# Altium integrated library NXP Semiconductors Standard MOSFETs.IntLib: 477 symbols (part 13 of 14)
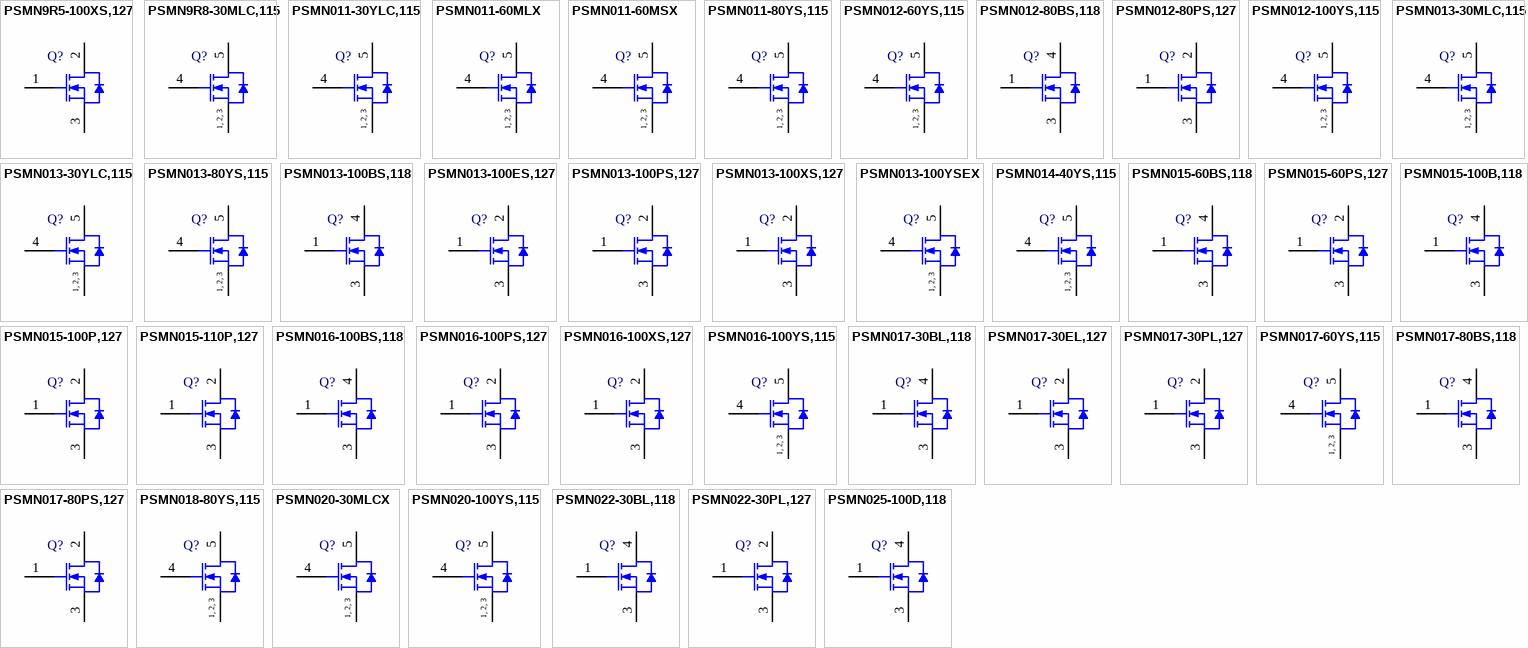
[diagram p24: symbols PSMN9R5-100XS,127 to PSMN025-100D,118]

## PSMN012-60YS,115
designator Q?
N-Channel Standard Level MOSFET, 60 V, 59 A, 5-Pin SOT669, Tape and Reel; Manufacturer: NXP Semiconductors; PartNumber: PSMN012-60YS,115; Channel Type: N; Ciss [typ] (pF): 1685; Coss [typ] (pF): 245; ID [max] (A): 59; Packing: Tape & Reel; Qr [typ] (nC): 41; VDS [max] (V): 60; VGSth [typ] (V): 3; DatasheetVersion: Rev. 01; PackageVersion: 13-02-27, 02/2013; PackageReference: SOT669; PackageDescription: 4-Pin Plastic Single-ended Surface Mounted Package, Body 4.9 x 3.95 mm, Pitch 1.27 mm; Supplier 1: Digi-Key; Supplier Part Number 1: 568-4977-2-ND; Supplier 2: Digi-Key; Supplier Part Number 2: 568-4977-1-ND; Supplier 3: Digi-Key; Supplier Part Number 3: 568-4977-6-ND; Supplier 4: Newark; Supplier Part Number 4: 79R2055; Supplier 5: Mouser; Supplier Part Number 5: 771-PSMN012-60YS-115; Mounting Technology: Surface Mount; Code_JEDEC: MO-235; ComponentLink1Description: Manufacturer URL; ComponentLink1URL: http://www.nxp.com/; ComponentLink2Description: Datasheet; ComponentLink2URL: http://www.nxp.com/documents/data_sheet/PSMN012-60YS.pdf; ComponentLink3Description: Package Specification; ComponentLink3URL: http://www.nxp.com/documents/outline_drawing/sot669_po.pdf
footprint NXP-SOT669_N (DPAK, 4-Leads, Body 5x4.1mm, Pitch 1.27mm, IPC Medium Density)
footprint NXP-SOT669_L (DPAK, 4-Leads, Body 5x4.1mm, Pitch 1.27mm, IPC High Density)
footprint NXP-SOT669_M (DPAK, 4-Leads, Body 5x4.1mm, Pitch 1.27mm, IPC Low Density)
pins: 1 S "source", 2 S "source", 3 S "source", 4 G "gate", 5 D "mounting base; connected to drain"
text: 1, 2, 3

## PSMN012-80BS,118
designator Q?
N-Channel Standard Level MOSFET, 80 V, 74 A, 3-Pin SOT404, Tape and Reel; Manufacturer: NXP Semiconductors; PartNumber: PSMN012-80BS,118; Channel Type: N; Ciss [typ] (pF): 2782; Coss [typ] (pF): 384; ID [max] (A): 74; Packing: Tape & Reel; Qr [typ] (nC): 64; VDS [max] (V): 80; VGSth [typ] (V): 3; DatasheetVersion: Rev. 2; PackageVersion: 13-02-25, 02/2013; PackageReference: SOT404; PackageDescription: 3-Pin Plastic Single-ended Surface Mounted Package, Body 10 x 9.6 mm, Pitch 2.54 mm; Supplier 1: Digi-Key; Supplier Part Number 1: 568-9697-2-ND; Supplier 2: Digi-Key; Supplier Part Number 2: 568-9697-1-ND; Supplier 3: Digi-Key; Supplier Part Number 3: 568-9697-6-ND; Supplier 4: Mouser; Supplier Part Number 4: 771-PSMN012-80BS,118; Mounting Technology: Surface Mount; ComponentLink1Description: Manufacturer URL; ComponentLink1URL: http://www.nxp.com/; ComponentLink2Description: Datasheet; ComponentLink2URL: http://www.nxp.com/documents/data_sheet/PSMN012-80BS.pdf; ComponentLink3Description: Package Specification; ComponentLink3URL: http://www.nxp.com/documents/outline_drawing/sot404_po.pdf
footprint NXP-SOT404_N (DPAK, 3-Leads, Body 10.3x9.8mm, Pitch 2.54mm, IPC Medium Density)
footprint NXP-SOT404_L (DPAK, 3-Leads, Body 10.3x9.8mm, Pitch 2.54mm, IPC High Density)
footprint NXP-SOT404_M (DPAK, 3-Leads, Body 10.3x9.8mm, Pitch 2.54mm, IPC Low Density)
pins: 1 G "gate", 3 S "source", 4 D "mounting base; connected to drain"

## PSMN012-80PS,127
designator Q?
N-Channel Standard Level MOSFET, 80 V, 74 A, 3-Pin SOT78, Tube; Manufacturer: NXP Semiconductors; PartNumber: PSMN012-80PS,127; Channel Type: N; Ciss [typ] (pF): 2782; Coss [typ] (pF): 384; ID [max] (A): 74; Qr [typ] (nC): 64; VDS [max] (V): 80; VGSth [typ] (V): 3; DatasheetVersion: Rev. 02; PackageVersion: 08-06-13, 06/2008; PackageReference: SOT78; PackageDescription: 3-Pin Flange Mount, Vertical Straight Lead, Body 10 x 4.4 mm, Pitch 2.54 mm; Supplier 1: Digi-Key; Supplier Part Number 1: 568-4902-5-ND; Supplier 2: Newark; Supplier Part Number 2: 70R7930; Supplier 3: Mouser; Supplier Part Number 3: 771-PSMN012-80PS,127; Packing: Tube; Mounting Technology: Through Hole; Code_JEITA: SC-46; Code_JEDEC: 3-lead TO-220AB; ComponentLink1Description: Manufacturer URL; ComponentLink1URL: http://www.nxp.com/; ComponentLink2Description: Datasheet; ComponentLink2URL: http://www.nxp.com/documents/data_sheet/PSMN012-80PS.pdf; ComponentLink3Description: Package Specification; ComponentLink3URL: http://www.nxp.com/documents/outline_drawing/sot078_po.pdf
footprint NXP-SOT78 (FM, 3-Leads, Body 10.3x4.7mm, Pitch 2.54mm)
pins: 1 G "gate", 2 D "drain", 3 S "source"

## PSMN012-100YS,115
designator Q?
N-Channel Standard Level MOSFET, 100 V, 60 A, 5-Pin SOT669, Tape and Reel; Manufacturer: NXP Semiconductors; PartNumber: PSMN012-100YS,115; Channel Type: N; Ciss [typ] (pF): 3500; Coss [typ] (pF): 246; ID [max] (A): 60; Packing: Tape & Reel; Qr [typ] (nC): 129; VDS [max] (V): 100; VGSth [typ] (V): 3; DatasheetVersion: Rev. 04; PackageVersion: 13-02-27, 02/2013; PackageReference: SOT669; PackageDescription: 4-Pin Plastic Single-ended Surface Mounted Package, Body 4.9 x 3.95 mm, Pitch 1.27 mm; Supplier 1: Digi-Key; Supplier Part Number 1: 568-4978-2-ND; Supplier 2: Digi-Key; Supplier Part Number 2: 568-4978-1-ND; Supplier 3: Digi-Key; Supplier Part Number 3: 568-4978-6-ND; Supplier 4: Farnell; Supplier Part Number 4: 2371251; Supplier 5: Newark; Supplier Part Number 5: 72R6286; Supplier 6: Newark; Supplier Part Number 6: 79R2054; Supplier 7: Mouser; Supplier Part Number 7: 771-PSMN012-100YS115; Mounting Technology: Surface Mount; Code_JEDEC: MO-235; ComponentLink1Description: Manufacturer URL; ComponentLink1URL: http://www.nxp.com/; ComponentLink2Description: Datasheet; ComponentLink2URL: http://www.nxp.com/documents/data_sheet/PSMN012-100YS.pdf; ComponentLink3Description: Package Specification; ComponentLink3URL: http://www.nxp.com/documents/outline_drawing/sot669_po.pdf
footprint NXP-SOT669_N (DPAK, 4-Leads, Body 5x4.1mm, Pitch 1.27mm, IPC Medium Density)
footprint NXP-SOT669_L (DPAK, 4-Leads, Body 5x4.1mm, Pitch 1.27mm, IPC High Density)
footprint NXP-SOT669_M (DPAK, 4-Leads, Body 5x4.1mm, Pitch 1.27mm, IPC Low Density)
pins: 1 S "source", 2 S "source", 3 S "source", 4 G "gate", 5 D "mounting base; connected to drain"
text: 1, 2, 3

## PSMN013-30MLC,115
designator Q?
N-Channel Logic Level MOSFET Using NextPower Technology, 30 V, 39 A, 5-Pin SOT1210, Reel; Manufacturer: NXP Semiconductors; PartNumber: PSMN013-30MLC,115; Channel Type: N; Ciss [typ] (pF): 519; Coss [typ] (pF): 131; ID [max] (A): 39; Qr [typ] (nC): 6.6; VDS [max] (V): 30; VGSth [typ] (V): 1.66; DatasheetVersion: Rev. 4; PackageVersion: 14-04-25, 04/2014; PackageReference: SOT1210; PackageDescription: 8-Pin Plastic Single-ended Surface Mounted Package, Body 3.3 x 2.6 mm, Pitch 0.65 mm; Supplier 1: Digi-Key; Supplier Part Number 1: 568-9571-2-ND; Supplier 2: Digi-Key; Supplier Part Number 2: 568-9571-1-ND; Supplier 3: Digi-Key; Supplier Part Number 3: 568-9571-6-ND; Supplier 4: Mouser; Supplier Part Number 4: 771-PSMN013-30MLC115; Packing: Reel; Mounting Technology: Surface Mount; ComponentLink1Description: Manufacturer URL; ComponentLink1URL: http://www.nxp.com/; ComponentLink2Description: Datasheet; ComponentLink2URL: http://www.nxp.com/documents/data_sheet/PSMN013-30MLC.pdf; ComponentLink3Description: Package Specification; ComponentLink3URL: http://www.nxp.com/documents/outline_drawing/sot1210_po.pdf
footprint NXP-SOT1210_N (DPAK, 5-Leads, Body 3.4x2.7mm, Pitch 0.65mm, IPC Medium Density)
footprint NXP-SOT1210_L (DPAK, 5-Leads, Body 3.4x2.7mm, Pitch 0.65mm, IPC High Density)
footprint NXP-SOT1210_M (DPAK, 5-Leads, Body 3.4x2.7mm, Pitch 0.65mm, IPC Low Density)
pins: 1 S "source", 2 S "source", 3 S "source", 4 G "gate", 5 D "mounting base; connected to drain"
text: 1, 2, 3

## PSMN013-30YLC,115
designator Q?
N-Channel Logic Level MOSFET Using NextPower Technology, 30 V, 32 A, 5-Pin SOT669, Tape and Reel; Manufacturer: NXP Semiconductors; PartNumber: PSMN013-30YLC,115; Channel Type: N; Ciss [typ] (pF): 521; Coss [typ] (pF): 128; ID [max] (A): 32; Packing: Tape & Reel; Qr [typ] (nC): 6; VDS [max] (V): 30; VGSth [typ] (V): 1.68; DatasheetVersion: Rev. 3; PackageVersion: 13-02-27, 02/2013; PackageReference: SOT669; PackageDescription: 4-Pin Plastic Single-ended Surface Mounted Package, Body 4.9 x 3.95 mm, Pitch 1.27 mm; Supplier 1: Digi-Key; Supplier Part Number 1: 568-8528-2-ND; Supplier 2: Digi-Key; Supplier Part Number 2: 568-8528-1-ND; Supplier 3: Digi-Key; Supplier Part Number 3: 568-8528-6-ND; Supplier 4: Mouser; Supplier Part Number 4: 771-PSMN013-30YLC115; Mounting Technology: Surface Mount; Code_JEDEC: MO-235; ComponentLink1Description: Manufacturer URL; ComponentLink1URL: http://www.nxp.com/; ComponentLink2Description: Datasheet; ComponentLink2URL: http://www.nxp.com/documents/data_sheet/PSMN013-30YLC.pdf; ComponentLink3Description: Package Specification; ComponentLink3URL: http://www.nxp.com/documents/outline_drawing/sot669_po.pdf
footprint NXP-SOT669_N (DPAK, 4-Leads, Body 5x4.1mm, Pitch 1.27mm, IPC Medium Density)
footprint NXP-SOT669_L (DPAK, 4-Leads, Body 5x4.1mm, Pitch 1.27mm, IPC High Density)
footprint NXP-SOT669_M (DPAK, 4-Leads, Body 5x4.1mm, Pitch 1.27mm, IPC Low Density)
pins: 1 S "source", 2 S "source", 3 S "source", 4 G "gate", 5 D "mounting base; connected to drain"
text: 1, 2, 3

## PSMN013-80YS,115
designator Q?
N-Channel Standard Level MOSFET, 80 V, 60 A, 5-Pin SOT669, Tape and Reel; Manufacturer: NXP Semiconductors; PartNumber: PSMN013-80YS,115; Channel Type: N; Ciss [typ] (pF): 2420; Coss [typ] (pF): 224; ID [max] (A): 60; Packing: Tape & Reel; Qr [typ] (nC): 91; VDS [max] (V): 80; VGSth [typ] (V): 3; DatasheetVersion: Rev. 01; PackageVersion: 13-02-27, 02/2013; PackageReference: SOT669; PackageDescription: 4-Pin Plastic Single-ended Surface Mounted Package, Body 4.9 x 3.95 mm, Pitch 1.27 mm; Supplier 1: Digi-Key; Supplier Part Number 1: 568-4911-2-ND; Supplier 2: Digi-Key; Supplier Part Number 2: 568-4911-1-ND; Supplier 3: Digi-Key; Supplier Part Number 3: 568-4911-6-ND; Supplier 4: Newark; Supplier Part Number 4: 79R2056; Supplier 5: Mouser; Supplier Part Number 5: 771-PSMN013-80YS,115; Mounting Technology: Surface Mount; Code_JEDEC: MO-235; ComponentLink1Description: Manufacturer URL; ComponentLink1URL: http://www.nxp.com/; ComponentLink2Description: Datasheet; ComponentLink2URL: http://www.nxp.com/documents/data_sheet/PSMN013-80YS.pdf; ComponentLink3Description: Package Specification; ComponentLink3URL: http://www.nxp.com/documents/outline_drawing/sot669_po.pdf
footprint NXP-SOT669_N (DPAK, 4-Leads, Body 5x4.1mm, Pitch 1.27mm, IPC Medium Density)
footprint NXP-SOT669_L (DPAK, 4-Leads, Body 5x4.1mm, Pitch 1.27mm, IPC High Density)
footprint NXP-SOT669_M (DPAK, 4-Leads, Body 5x4.1mm, Pitch 1.27mm, IPC Low Density)
pins: 1 S "source", 2 S "source", 3 S "source", 4 G "gate", 5 D "mounting base; connected to drain"
text: 1, 2, 3

## PSMN013-100BS,118
designator Q?
N-Channel Standard Level MOSFET, 100 V, 68 A, 3-Pin SOT404, Tape and Reel; Manufacturer: NXP Semiconductors; PartNumber: PSMN013-100BS,118; Channel Type: N; Ciss [typ] (pF): 3195; Coss [typ] (pF): 221; ID [max] (A): 68; Packing: Tape & Reel; Qr [typ] (nC): 109; VDS [max] (V): 100; VGSth [typ] (V): 3; PackageVersion: 13-02-25, 02/2013; PackageReference: SOT404; PackageDescription: 3-Pin Plastic Single-ended Surface Mounted Package, Body 10 x 9.6 mm, Pitch 2.54 mm; Supplier 1: Digi-Key; Supplier Part Number 1: 568-9474-2-ND; Supplier 2: Digi-Key; Supplier Part Number 2: 568-9474-1-ND; Supplier 3: Digi-Key; Supplier Part Number 3: 568-9474-6-ND; Supplier 4: Mouser; Supplier Part Number 4: 771-PSMN013-100BS118; Mounting Technology: Surface Mount; ComponentLink1Description: Manufacturer URL; ComponentLink1URL: http://www.nxp.com/; ComponentLink2Description: Datasheet; ComponentLink2URL: http://www.nxp.com/documents/data_sheet/PSMN013-100BS.pdf; ComponentLink3Description: Package Specification; ComponentLink3URL: http://www.nxp.com/documents/outline_drawing/sot404_po.pdf
footprint NXP-SOT404_N (DPAK, 3-Leads, Body 10.3x9.8mm, Pitch 2.54mm, IPC Medium Density)
footprint NXP-SOT404_L (DPAK, 3-Leads, Body 10.3x9.8mm, Pitch 2.54mm, IPC High Density)
footprint NXP-SOT404_M (DPAK, 3-Leads, Body 10.3x9.8mm, Pitch 2.54mm, IPC Low Density)
pins: 1 G "gate", 3 S "source", 4 D "mounting base; connected to drain"

## PSMN013-100ES,127
designator Q?
N-Channel Standard Level MOSFET, 100 V, 68 A, 3-Pin SOT226, Rail; Manufacturer: NXP Semiconductors; PartNumber: PSMN013-100ES,127; Channel Type: N; Ciss [typ] (pF): 3195; Coss [typ] (pF): 221; ID [max] (A): 68; Qr [typ] (nC): 109; VDS [max] (V): 100; VGSth [typ] (V): 3; DatasheetVersion: Rev. 3; PackageVersion: 09-08-25, 08/2009; PackageReference: SOT226; PackageDescription: 3-Pin Flange Mount, Vertical Straight Lead, Body 10 x 4.3 mm, Pitch 2.54 mm; Supplier 1: Digi-Key; Supplier Part Number 1: 568-7510-5-ND; Supplier 2: Mouser; Supplier Part Number 2: 771-PSMN013-100ES127; Packing: Rail; Mounting Technology: Through Hole; Code_JEDEC: TO-262; ComponentLink1Description: Manufacturer URL; ComponentLink1URL: http://www.nxp.com/; ComponentLink2Description: Datasheet; ComponentLink2URL: http://www.nxp.com/documents/data_sheet/PSMN013-100ES.pdf; ComponentLink3Description: Package Specification; ComponentLink3URL: http://www.nxp.com/documents/outline_drawing/sot226_po.pdf
footprint NXP-SOT226 (FM, 3-Leads, Body 10.3x4.5mm, Pitch 2.54mm)
pins: 1 G "gate", 2 D "drain", 3 S "source"

## PSMN013-100PS,127
designator Q?
N-Channel Standard Level MOSFET, 100 V, 68 A, 3-Pin SOT78, Tube; Manufacturer: NXP Semiconductors; PartNumber: PSMN013-100PS,127; Channel Type: N; Ciss [typ] (pF): 3195; Coss [typ] (pF): 221; ID [max] (A): 68; Qr [typ] (nC): 109; VDS [max] (V): 100; VGSth [typ] (V): 3; PackageVersion: 08-06-13, 06/2008; PackageReference: SOT78; PackageDescription: 3-Pin Flange Mount, Vertical Straight Lead, Body 10 x 4.4 mm, Pitch 2.54 mm; Supplier 1: Digi-Key; Supplier Part Number 1: 568-4976-5-ND; Supplier 2: Mouser; Supplier Part Number 2: 771-PSMN013-100PS127; Packing: Tube; Mounting Technology: Through Hole; Code_JEITA: SC-46; Code_JEDEC: 3-lead TO-220AB; ComponentLink1Description: Manufacturer URL; ComponentLink1URL: http://www.nxp.com/; ComponentLink2Description: Datasheet; ComponentLink2URL: http://www.nxp.com/documents/data_sheet/PSMN013-100PS.pdf; ComponentLink3Description: Package Specification; ComponentLink3URL: http://www.nxp.com/documents/outline_drawing/sot078_po.pdf
footprint NXP-SOT78 (FM, 3-Leads, Body 10.3x4.7mm, Pitch 2.54mm)
pins: 1 G "gate", 2 D "drain", 3 S "source"

## PSMN013-100XS,127
designator Q?
N-Channel Standard Level MOSFET, 100 V, 35.2 A, 3-Pin SOT186A, Rail; Manufacturer: NXP Semiconductors; PartNumber: PSMN013-100XS,127; Channel Type: N; Ciss [typ] (pF): 3195; Coss [typ] (pF): 221; ID [max] (A): 35.2; Qr [typ] (nC): 109; VDS [max] (V): 100; VGSth [typ] (V): 3; DatasheetVersion: Rev. 2; PackageVersion: 06-02-14, 02/2006; PackageReference: SOT186A; PackageDescription: 3-Pin Flange Mount, Vertical Straight Lead, Body 10 x 4.3 mm, Pitch 2.54 mm; Supplier 1: Digi-Key; Supplier Part Number 1: 568-9499-5-ND; Supplier 2: Mouser; Supplier Part Number 2: 771-PSMN013-100XS127; Packing: Rail; Mounting Technology: Through Hole; Code_JEDEC: 3-lead TO-220F; ComponentLink1Description: Manufacturer URL; ComponentLink1URL: http://www.nxp.com/; ComponentLink2Description: Datasheet; ComponentLink2URL: http://www.nxp.com/documents/data_sheet/PSMN013-100XS.pdf; ComponentLink3Description: Package Specification; ComponentLink3URL: http://www.nxp.com/documents/outline_drawing/sot186a_po.pdf
footprint NXP-SOT186A (FM, 3-Leads, Body 10.3x4.6mm, Pitch 2.54mm)
pins: 1 G "gate", 2 D "drain", 3 S "source"

## PSMN013-100YSEX
designator Q?
N-Channel Standard Level MOSFET, 100 V, 82 A, 5-Pin SOT669, Tape and Reel; Manufacturer: NXP Semiconductors; PartNumber: PSMN013-100YSEX; Channel Type: N; Ciss [typ] (pF): 3775; Coss [typ] (pF): 265; ID [max] (A): 82; Packing: Tape & Reel; Qr [typ] (nC): 146; VDS [max] (V): 100; VGSth [typ] (V): 3; PackageVersion: 13-02-27, 02/2013; PackageReference: SOT669; PackageDescription: 4-Pin Plastic Single-ended Surface Mounted Package, Body 4.9 x 3.95 mm, Pitch 1.27 mm; Supplier 1: Digi-Key; Supplier Part Number 1: 568-10284-2-ND; Supplier 2: Digi-Key; Supplier Part Number 2: 568-10284-1-ND; Supplier 3: Digi-Key; Supplier Part Number 3: 568-10284-6-ND; Supplier 4: Mouser; Supplier Part Number 4: 771-PSMN013-100YSEX; Mounting Technology: Surface Mount; Code_JEDEC: MO-235; ComponentLink1Description: Manufacturer URL; ComponentLink1URL: http://www.nxp.com/; ComponentLink2Description: Datasheet; ComponentLink2URL: http://www.nxp.com/documents/data_sheet/PSMN013-100YSE.pdf; ComponentLink3Description: Package Specification; ComponentLink3URL: http://www.nxp.com/documents/outline_drawing/sot669_po.pdf
footprint NXP-SOT669_N (DPAK, 4-Leads, Body 5x4.1mm, Pitch 1.27mm, IPC Medium Density)
footprint NXP-SOT669_L (DPAK, 4-Leads, Body 5x4.1mm, Pitch 1.27mm, IPC High Density)
footprint NXP-SOT669_M (DPAK, 4-Leads, Body 5x4.1mm, Pitch 1.27mm, IPC Low Density)
pins: 1 S "source", 2 S "source", 3 S "source", 4 G "gate", 5 D "mounting base; connected to drain"
text: 1, 2, 3

## PSMN014-40YS,115
designator Q?
N-Channel Standard Level MOSFET, 40 V, 46 A, 5-Pin SOT669, Tape and Reel; Manufacturer: NXP Semiconductors; PartNumber: PSMN014-40YS,115; Channel Type: N; Ciss [typ] (pF): 702; Coss [typ] (pF): 171; ID [max] (A): 46; Packing: Tape & Reel; Qr [typ] (nC): 17; VDS [max] (V): 40; VGSth [typ] (V): 3; DatasheetVersion: Rev. 03; PackageVersion: 13-02-27, 02/2013; PackageReference: SOT669; PackageDescription: 4-Pin Plastic Single-ended Surface Mounted Package, Body 4.9 x 3.95 mm, Pitch 1.27 mm; Supplier 1: Digi-Key; Supplier Part Number 1: 568-5578-2-ND; Supplier 2: Digi-Key; Supplier Part Number 2: 568-5578-1-ND; Supplier 3: Digi-Key; Supplier Part Number 3: 568-5578-6-ND; Supplier 4: Mouser; Supplier Part Number 4: 771-PSMN01440YS115; Mounting Technology: Surface Mount; Code_JEDEC: MO-235; ComponentLink1Description: Manufacturer URL; ComponentLink1URL: http://www.nxp.com/; ComponentLink2Description: Datasheet; ComponentLink2URL: http://www.nxp.com/documents/data_sheet/PSMN014-40YS.pdf; ComponentLink3Description: Package Specification; ComponentLink3URL: http://www.nxp.com/documents/outline_drawing/sot669_po.pdf
footprint NXP-SOT669_N (DPAK, 4-Leads, Body 5x4.1mm, Pitch 1.27mm, IPC Medium Density)
footprint NXP-SOT669_L (DPAK, 4-Leads, Body 5x4.1mm, Pitch 1.27mm, IPC High Density)
footprint NXP-SOT669_M (DPAK, 4-Leads, Body 5x4.1mm, Pitch 1.27mm, IPC Low Density)
pins: 1 S "source", 2 S "source", 3 S "source", 4 G "gate", 5 D "mounting base; connected to drain"
text: 1, 2, 3

## PSMN015-60BS,118
designator Q?
N-Channel Standard Level MOSFET, 60 V, 50 A, 3-Pin SOT404, Tape and Reel; Manufacturer: NXP Semiconductors; PartNumber: PSMN015-60BS,118; Channel Type: N; Ciss [typ] (pF): 1220; Coss [typ] (pF): 169; ID [max] (A): 50; Packing: Tape & Reel; Qr [typ] (nC): 28.5; VDS [max] (V): 60; VGSth [typ] (V): 3; DatasheetVersion: Rev. 2; PackageVersion: 13-02-25, 02/2013; PackageReference: SOT404; PackageDescription: 3-Pin Plastic Single-ended Surface Mounted Package, Body 10 x 9.6 mm, Pitch 2.54 mm; Supplier 1: Digi-Key; Supplier Part Number 1: 568-9698-2-ND; Supplier 2: Digi-Key; Supplier Part Number 2: 568-9698-1-ND; Supplier 3: Digi-Key; Supplier Part Number 3: 568-9698-6-ND; Supplier 4: Mouser; Supplier Part Number 4: 771-PSMN015-60BS,118; Mounting Technology: Surface Mount; ComponentLink1Description: Manufacturer URL; ComponentLink1URL: http://www.nxp.com/; ComponentLink2Description: Datasheet; ComponentLink2URL: http://www.nxp.com/documents/data_sheet/PSMN015-60BS.pdf; ComponentLink3Description: Package Specification; ComponentLink3URL: http://www.nxp.com/documents/outline_drawing/sot404_po.pdf
footprint NXP-SOT404_N (DPAK, 3-Leads, Body 10.3x9.8mm, Pitch 2.54mm, IPC Medium Density)
footprint NXP-SOT404_L (DPAK, 3-Leads, Body 10.3x9.8mm, Pitch 2.54mm, IPC High Density)
footprint NXP-SOT404_M (DPAK, 3-Leads, Body 10.3x9.8mm, Pitch 2.54mm, IPC Low Density)
pins: 1 G "gate", 3 S "source", 4 D "mounting base; connected to drain"

## PSMN015-60PS,127
designator Q?
N-Channel Standard Level MOSFET, 60 V, 50 A, 3-Pin SOT78, Tube; Manufacturer: NXP Semiconductors; PartNumber: PSMN015-60PS,127; Channel Type: N; Ciss [typ] (pF): 1220; Coss [typ] (pF): 169; ID [max] (A): 50; Qr [typ] (nC): 28.5; VDS [max] (V): 60; VGSth [typ] (V): 3; DatasheetVersion: Rev. 3; PackageVersion: 08-06-13, 06/2008; PackageReference: SOT78; PackageDescription: 3-Pin Flange Mount, Vertical Straight Lead, Body 10 x 4.4 mm, Pitch 2.54 mm; Supplier 1: Digi-Key; Supplier Part Number 1: 568-5773-5-ND; Supplier 2: Newark; Supplier Part Number 2: 81R3077; Supplier 3: Mouser; Supplier Part Number 3: 771-PSMN015-60PS127; Packing: Tube; Mounting Technology: Through Hole; Code_JEITA: SC-46; Code_JEDEC: 3-lead TO-220AB; ComponentLink1Description: Manufacturer URL; ComponentLink1URL: http://www.nxp.com/; ComponentLink2Description: Datasheet; ComponentLink2URL: http://www.nxp.com/documents/data_sheet/PSMN015-60PS.pdf; ComponentLink3Description: Package Specification; ComponentLink3URL: http://www.nxp.com/documents/outline_drawing/sot078_po.pdf
footprint NXP-SOT78 (FM, 3-Leads, Body 10.3x4.7mm, Pitch 2.54mm)
pins: 1 G "gate", 2 D "drain", 3 S "source"

## PSMN015-100B,118
designator Q?
N-Channel TrenchMOS SiliconMAX Standard Level FET, 100 V, 75 A, 3-Pin SOT404, Tape and Reel; Manufacturer: NXP Semiconductors; PartNumber: PSMN015-100B,118; Channel Type: N; Ciss [typ] (pF): 4900; Coss [typ] (pF): 390; ID [max] (A): 75; Packing: Tape & Reel; Qr [typ] (nC): 115; VDS [max] (V): 100; VGSth [typ] (V): 3; DatasheetVersion: Rev. 06; PackageVersion: 13-02-25, 02/2013; PackageReference: SOT404; PackageDescription: 3-Pin Plastic Single-ended Surface Mounted Package, Body 10 x 9.6 mm, Pitch 2.54 mm; Supplier 1: Digi-Key; Supplier Part Number 1: 568-5949-2-ND; Supplier 2: Digi-Key; Supplier Part Number 2: 568-5949-1-ND; Supplier 3: Digi-Key; Supplier Part Number 3: 568-5949-6-ND; Supplier 4: Newark; Supplier Part Number 4: 70R7932; Supplier 5: Mouser; Supplier Part Number 5: 771-PSMN015-100B118; Mounting Technology: Surface Mount; ComponentLink1Description: Manufacturer URL; ComponentLink1URL: http://www.nxp.com/; ComponentLink2Description: Datasheet; ComponentLink2URL: http://www.nxp.com/documents/data_sheet/PSMN015-100B.pdf; ComponentLink3Description: Package Specification; ComponentLink3URL: http://www.nxp.com/documents/outline_drawing/sot404_po.pdf
footprint NXP-SOT404_N (DPAK, 3-Leads, Body 10.3x9.8mm, Pitch 2.54mm, IPC Medium Density)
footprint NXP-SOT404_L (DPAK, 3-Leads, Body 10.3x9.8mm, Pitch 2.54mm, IPC High Density)
footprint NXP-SOT404_M (DPAK, 3-Leads, Body 10.3x9.8mm, Pitch 2.54mm, IPC Low Density)
pins: 1 G "gate", 3 S "source", 4 D "mounting base; connected to drain"

## PSMN015-100P,127
designator Q?
N-Channel TrenchMOS SiliconMAX Standard Level FET, 100 V, 75 A, 3-Pin SOT78, Tube; Manufacturer: NXP Semiconductors; PartNumber: PSMN015-100P,127; Channel Type: N; Ciss [typ] (pF): 4900; Coss [typ] (pF): 390; ID [max] (A): 75; Qr [typ] (nC): 115; VDS [max] (V): 100; VGSth [typ] (V): 3; DatasheetVersion: Rev. 06; PackageVersion: 08-06-13, 06/2008; PackageReference: SOT78; PackageDescription: 3-Pin Flange Mount, Vertical Straight Lead, Body 10 x 4.4 mm, Pitch 2.54 mm; Supplier 1: Digi-Key; Supplier Part Number 1: 568-5771-5-ND; Supplier 2: Newark; Supplier Part Number 2: 70R7933; Supplier 3: Mouser; Supplier Part Number 3: 771-PSMN015-100P127; Packing: Tube; Mounting Technology: Through Hole; Code_JEITA: SC-46; Code_JEDEC: 3-lead TO-220AB; ComponentLink1Description: Manufacturer URL; ComponentLink1URL: http://www.nxp.com/; ComponentLink2Description: Datasheet; ComponentLink2URL: http://www.nxp.com/documents/data_sheet/PSMN015-100P.pdf; ComponentLink3Description: Package Specification; ComponentLink3URL: http://www.nxp.com/documents/outline_drawing/sot078_po.pdf
footprint NXP-SOT78 (FM, 3-Leads, Body 10.3x4.7mm, Pitch 2.54mm)
pins: 1 G "gate", 2 D "drain", 3 S "source"

## PSMN015-110P,127
designator Q?
N-Channel TrenchMOS SiliconMAX Standard Level FET, 110 V, 75 A, 3-Pin SOT78, Tube; Manufacturer: NXP Semiconductors; PartNumber: PSMN015-110P,127; Channel Type: N; Ciss [typ] (pF): 4900; Coss [typ] (pF): 390; ID [max] (A): 75; Qr [typ] (nC): 115; VDS [max] (V): 110; VGSth [typ] (V): 3; DatasheetVersion: Rev. 02; PackageVersion: 08-06-13, 06/2008; PackageReference: SOT78; PackageDescription: 3-Pin Flange Mount, Vertical Straight Lead, Body 10 x 4.4 mm, Pitch 2.54 mm; Supplier 1: Digi-Key; Supplier Part Number 1: 568-5772-ND; Supplier 2: Mouser; Supplier Part Number 2: 771-PSMN015-110P127; Packing: Tube; Mounting Technology: Through Hole; Code_JEITA: SC-46; Code_JEDEC: 3-lead TO-220AB; ComponentLink1Description: Manufacturer URL; ComponentLink1URL: http://www.nxp.com/; ComponentLink2Description: Datasheet; ComponentLink2URL: http://www.nxp.com/documents/data_sheet/PSMN015-110P.pdf; ComponentLink3Description: Package Specification; ComponentLink3URL: http://www.nxp.com/documents/outline_drawing/sot078_po.pdf
footprint NXP-SOT78 (FM, 3-Leads, Body 10.3x4.7mm, Pitch 2.54mm)
pins: 1 G "gate", 2 D "drain", 3 S "source"

## PSMN016-100BS,118
designator Q?
N-Channel Standard Level MOSFET, 100 V, 57 A, 3-Pin SOT404, Tape and Reel; Manufacturer: NXP Semiconductors; PartNumber: PSMN016-100BS,118; Channel Type: N; Ciss [typ] (pF): 2404; Coss [typ] (pF): 189; ID [max] (A): 57; Packing: Tape & Reel; Qr [typ] (nC): 126; VDS [max] (V): 100; VGSth [typ] (V): 3; DatasheetVersion: Rev. 2; PackageVersion: 13-02-25, 02/2013; PackageReference: SOT404; PackageDescription: 3-Pin Plastic Single-ended Surface Mounted Package, Body 10 x 9.6 mm, Pitch 2.54 mm; Supplier 1: Digi-Key; Supplier Part Number 1: 568-9699-2-ND; Supplier 2: Digi-Key; Supplier Part Number 2: 568-9699-1-ND; Supplier 3: Digi-Key; Supplier Part Number 3: 568-9699-6-ND; Supplier 4: Mouser; Supplier Part Number 4: 771-PSMN016-100BS118; Mounting Technology: Surface Mount; ComponentLink1Description: Manufacturer URL; ComponentLink1URL: http://www.nxp.com/; ComponentLink2Description: Datasheet; ComponentLink2URL: http://www.nxp.com/documents/data_sheet/PSMN016-100BS.pdf; ComponentLink3Description: Package Specification; ComponentLink3URL: http://www.nxp.com/documents/outline_drawing/sot404_po.pdf
footprint NXP-SOT404_N (DPAK, 3-Leads, Body 10.3x9.8mm, Pitch 2.54mm, IPC Medium Density)
footprint NXP-SOT404_L (DPAK, 3-Leads, Body 10.3x9.8mm, Pitch 2.54mm, IPC High Density)
footprint NXP-SOT404_M (DPAK, 3-Leads, Body 10.3x9.8mm, Pitch 2.54mm, IPC Low Density)
pins: 1 G "gate", 3 S "source", 4 D "mounting base; connected to drain"

## PSMN016-100PS,127
designator Q?
N-Channel Standard Level MOSFET, 100 V, 57 A, 3-Pin SOT78, Tube; Manufacturer: NXP Semiconductors; PartNumber: PSMN016-100PS,127; Channel Type: N; Ciss [typ] (pF): 2404; Coss [typ] (pF): 189; ID [max] (A): 57; Qr [typ] (nC): 126; VDS [max] (V): 100; VGSth [typ] (V): 3; DatasheetVersion: Rev. 3; PackageVersion: 08-06-13, 06/2008; PackageReference: SOT78; PackageDescription: 3-Pin Flange Mount, Vertical Straight Lead, Body 10 x 4.4 mm, Pitch 2.54 mm; Supplier 1: Digi-Key; Supplier Part Number 1: 568-5774-5-ND; Supplier 2: Mouser; Supplier Part Number 2: 771-PSMN016-100PS127; Packing: Tube; Mounting Technology: Through Hole; Code_JEITA: SC-46; Code_JEDEC: 3-lead TO-220AB; ComponentLink1Description: Manufacturer URL; ComponentLink1URL: http://www.nxp.com/; ComponentLink2Description: Datasheet; ComponentLink2URL: http://www.nxp.com/documents/data_sheet/PSMN016-100PS.pdf; ComponentLink3Description: Package Specification; ComponentLink3URL: http://www.nxp.com/documents/outline_drawing/sot078_po.pdf
footprint NXP-SOT78 (FM, 3-Leads, Body 10.3x4.7mm, Pitch 2.54mm)
pins: 1 G "gate", 2 D "drain", 3 S "source"

## PSMN016-100XS,127
designator Q?
N-Channel Standard Level MOSFET, 100 V, 32.1 A, 3-Pin SOT186A, Rail; Manufacturer: NXP Semiconductors; PartNumber: PSMN016-100XS,127; Channel Type: N; Ciss [typ] (pF): 2404; Coss [typ] (pF): 189; ID [max] (A): 32.1; Qr [typ] (nC): 126; VDS [max] (V): 100; VGSth [typ] (V): 3; DatasheetVersion: Rev. 4; PackageVersion: 06-02-14, 02/2006; PackageReference: SOT186A; PackageDescription: 3-Pin Flange Mount, Vertical Straight Lead, Body 10 x 4.3 mm, Pitch 2.54 mm; Supplier 1: Digi-Key; Supplier Part Number 1: 568-9500-5-ND; Supplier 2: Mouser; Supplier Part Number 2: 771-PSMN016-100XS127; Packing: Rail; Mounting Technology: Through Hole; Code_JEDEC: 3-lead TO-220F; ComponentLink1Description: Manufacturer URL; ComponentLink1URL: http://www.nxp.com/; ComponentLink2Description: Datasheet; ComponentLink2URL: http://www.nxp.com/documents/data_sheet/PSMN016-100XS.pdf; ComponentLink3Description: Package Specification; ComponentLink3URL: http://www.nxp.com/documents/outline_drawing/sot186a_po.pdf
footprint NXP-SOT186A (FM, 3-Leads, Body 10.3x4.6mm, Pitch 2.54mm)
pins: 1 G "gate", 2 D "drain", 3 S "source"

## PSMN016-100YS,115
designator Q?
N-Channel Standard Level MOSFET, 100 V, 51 A, 5-Pin SOT669, Tape and Reel; Manufacturer: NXP Semiconductors; PartNumber: PSMN016-100YS,115; Channel Type: N; Ciss [typ] (pF): 2744; Coss [typ] (pF): 205; ID [max] (A): 51; Packing: Tape & Reel; Qr [typ] (nC): 131; VDS [max] (V): 100; VGSth [typ] (V): 3; DatasheetVersion: Rev. 4; PackageVersion: 13-02-27, 02/2013; PackageReference: SOT669; PackageDescription: 4-Pin Plastic Single-ended Surface Mounted Package, Body 4.9 x 3.95 mm, Pitch 1.27 mm; Supplier 1: Digi-Key; Supplier Part Number 1: 568-5579-2-ND; Supplier 2: Digi-Key; Supplier Part Number 2: 568-5579-1-ND; Supplier 3: Digi-Key; Supplier Part Number 3: 568-5579-6-ND; Supplier 4: Mouser; Supplier Part Number 4: 771-PSMN016-100YS115; Mounting Technology: Surface Mount; Code_JEDEC: MO-235; ComponentLink1Description: Manufacturer URL; ComponentLink1URL: http://www.nxp.com/; ComponentLink2Description: Datasheet; ComponentLink2URL: http://www.nxp.com/documents/data_sheet/PSMN016-100YS.pdf; ComponentLink3Description: Package Specification; ComponentLink3URL: http://www.nxp.com/documents/outline_drawing/sot669_po.pdf
footprint NXP-SOT669_N (DPAK, 4-Leads, Body 5x4.1mm, Pitch 1.27mm, IPC Medium Density)
footprint NXP-SOT669_L (DPAK, 4-Leads, Body 5x4.1mm, Pitch 1.27mm, IPC High Density)
footprint NXP-SOT669_M (DPAK, 4-Leads, Body 5x4.1mm, Pitch 1.27mm, IPC Low Density)
pins: 1 S "source", 2 S "source", 3 S "source", 4 G "gate", 5 D "mounting base; connected to drain"
text: 1, 2, 3

## PSMN017-30BL,118
designator Q?
N-Channel Logic Level MOSFET, 30 V, 32 A, 3-Pin SOT404, Tape and Reel; Manufacturer: NXP Semiconductors; PartNumber: PSMN017-30BL,118; Channel Type: N; Ciss [typ] (pF): 552; Coss [typ] (pF): 127; ID [max] (A): 32; Packing: Tape & Reel; Qr [typ] (nC): 6.5; VDS [max] (V): 30; VGSth [typ] (V): 1.7; DatasheetVersion: Rev. 2; PackageVersion: 13-02-25, 02/2013; PackageReference: SOT404; PackageDescription: 3-Pin Plastic Single-ended Surface Mounted Package, Body 10 x 9.6 mm, Pitch 2.54 mm; Supplier 1: Digi-Key; Supplier Part Number 1: 568-9504-2-ND; Supplier 2: Digi-Key; Supplier Part Number 2: 568-9504-1-ND; Supplier 3: Digi-Key; Supplier Part Number 3: 568-9504-6-ND; Supplier 4: Mouser; Supplier Part Number 4: 771-PSMN017-30BL,118; Mounting Technology: Surface Mount; ComponentLink1Description: Manufacturer URL; ComponentLink1URL: http://www.nxp.com/; ComponentLink2Description: Datasheet; ComponentLink2URL: http://www.nxp.com/documents/data_sheet/PSMN017-30BL.pdf; ComponentLink3Description: Package Specification; ComponentLink3URL: http://www.nxp.com/documents/outline_drawing/sot404_po.pdf
footprint NXP-SOT404_N (DPAK, 3-Leads, Body 10.3x9.8mm, Pitch 2.54mm, IPC Medium Density)
footprint NXP-SOT404_L (DPAK, 3-Leads, Body 10.3x9.8mm, Pitch 2.54mm, IPC High Density)
footprint NXP-SOT404_M (DPAK, 3-Leads, Body 10.3x9.8mm, Pitch 2.54mm, IPC Low Density)
pins: 1 G "gate", 3 S "source", 4 D "mounting base; connected to drain"

## PSMN017-30EL,127
designator Q?
N-Channel Logic Level MOSFET, 30 V, 32 A, 3-Pin SOT226, Rail; Manufacturer: NXP Semiconductors; PartNumber: PSMN017-30EL,127; Channel Type: N; Ciss [typ] (pF): 552; Coss [typ] (pF): 127; ID [max] (A): 32; Qr [typ] (nC): 6.5; VDS [max] (V): 30; VGSth [typ] (V): 1.7; DatasheetVersion: Rev. 2; PackageVersion: 09-08-25, 08/2009; PackageReference: SOT226; PackageDescription: 3-Pin Flange Mount, Vertical Straight Lead, Body 10 x 4.3 mm, Pitch 2.54 mm; Supplier 1: Digi-Key; Supplier Part Number 1: 568-9505-5-ND; Supplier 2: Mouser; Supplier Part Number 2: 771-PSMN017-30EL,127; Packing: Rail; Mounting Technology: Through Hole; Code_JEDEC: TO-262; ComponentLink1Description: Manufacturer URL; ComponentLink1URL: http://www.nxp.com/; ComponentLink2Description: Datasheet; ComponentLink2URL: http://www.nxp.com/documents/data_sheet/PSMN017-30EL.pdf; ComponentLink3Description: Package Specification; ComponentLink3URL: http://www.nxp.com/documents/outline_drawing/sot226_po.pdf
footprint NXP-SOT226 (FM, 3-Leads, Body 10.3x4.5mm, Pitch 2.54mm)
pins: 1 G "gate", 2 D "drain", 3 S "source"

## PSMN017-30PL,127
designator Q?
N-Channel Logic Level MOSFET, 30 V, 32 A, 3-Pin SOT78, Tube; Manufacturer: NXP Semiconductors; PartNumber: PSMN017-30PL,127; Channel Type: N; Ciss [typ] (pF): 552; Coss [typ] (pF): 127; ID [max] (A): 32; Qr [typ] (nC): 6.5; VDS [max] (V): 30; VGSth [typ] (V): 1.7; DatasheetVersion: Rev. 2; PackageVersion: 08-06-13, 06/2008; PackageReference: SOT78; PackageDescription: 3-Pin Flange Mount, Vertical Straight Lead, Body 10 x 4.4 mm, Pitch 2.54 mm; Supplier 1: Digi-Key; Supplier Part Number 1: 568-9506-5-ND; Supplier 2: Mouser; Supplier Part Number 2: 771-PSMN017-30PL,127; Packing: Tube; Mounting Technology: Through Hole; Code_JEITA: SC-46; Code_JEDEC: 3-lead TO-220AB; ComponentLink1Description: Manufacturer URL; ComponentLink1URL: http://www.nxp.com/; ComponentLink2Description: Datasheet; ComponentLink2URL: http://www.nxp.com/documents/data_sheet/PSMN017-30PL.pdf; ComponentLink3Description: Package Specification; ComponentLink3URL: http://www.nxp.com/documents/outline_drawing/sot078_po.pdf
footprint NXP-SOT78 (FM, 3-Leads, Body 10.3x4.7mm, Pitch 2.54mm)
pins: 1 G "gate", 2 D "drain", 3 S "source"

## PSMN017-60YS,115
designator Q?
N-Channel Standard Level MOSFET, 60 V, 44 A, 5-Pin SOT669, Tape and Reel; Manufacturer: NXP Semiconductors; PartNumber: PSMN017-60YS,115; Channel Type: N; Ciss [typ] (pF): 1172; Coss [typ] (pF): 164; ID [max] (A): 44; Packing: Tape & Reel; Qr [typ] (nC): 38.9; VDS [max] (V): 60; VGSth [typ] (V): 3; DatasheetVersion: Rev. 02; PackageVersion: 13-02-27, 02/2013; PackageReference: SOT669; PackageDescription: 4-Pin Plastic Single-ended Surface Mounted Package, Body 4.9 x 3.95 mm, Pitch 1.27 mm; Supplier 1: Digi-Key; Supplier Part Number 1: 568-5581-2-ND; Supplier 2: Digi-Key; Supplier Part Number 2: 568-5581-1-ND; Supplier 3: Digi-Key; Supplier Part Number 3: 568-5581-6-ND; Supplier 4: Farnell; Supplier Part Number 4: 2345300; Supplier 5: Newark; Supplier Part Number 5: 27T3308; Supplier 6: Newark; Supplier Part Number 6: 81R3079; Supplier 7: Mouser; Supplier Part Number 7: 771-PSMN017-60YS115; Mounting Technology: Surface Mount; Code_JEDEC: MO-235; ComponentLink1Description: Manufacturer URL; ComponentLink1URL: http://www.nxp.com/; ComponentLink2Description: Datasheet; ComponentLink2URL: http://www.nxp.com/documents/data_sheet/PSMN017-60YS.pdf; ComponentLink3Description: Package Specification; ComponentLink3URL: http://www.nxp.com/documents/outline_drawing/sot669_po.pdf
footprint NXP-SOT669_N (DPAK, 4-Leads, Body 5x4.1mm, Pitch 1.27mm, IPC Medium Density)
footprint NXP-SOT669_L (DPAK, 4-Leads, Body 5x4.1mm, Pitch 1.27mm, IPC High Density)
footprint NXP-SOT669_M (DPAK, 4-Leads, Body 5x4.1mm, Pitch 1.27mm, IPC Low Density)
pins: 1 S "source", 2 S "source", 3 S "source", 4 G "gate", 5 D "mounting base; connected to drain"
text: 1, 2, 3

## PSMN017-80BS,118
designator Q?
N-Channel Standard Level MOSFET, 80 V, 50 A, 3-Pin SOT404, Tape and Reel; Manufacturer: NXP Semiconductors; PartNumber: PSMN017-80BS,118; Channel Type: N; Ciss [typ] (pF): 1573; Coss [typ] (pF): 154; ID [max] (A): 50; Packing: Tape & Reel; Qr [typ] (nC): 55; VDS [max] (V): 80; VGSth [typ] (V): 3; DatasheetVersion: Rev. 2; PackageVersion: 13-02-25, 02/2013; PackageReference: SOT404; PackageDescription: 3-Pin Plastic Single-ended Surface Mounted Package, Body 10 x 9.6 mm, Pitch 2.54 mm; Supplier 1: Digi-Key; Supplier Part Number 1: 568-9700-2-ND; Supplier 2: Digi-Key; Supplier Part Number 2: 568-9700-1-ND; Supplier 3: Digi-Key; Supplier Part Number 3: 568-9700-6-ND; Supplier 4: Mouser; Supplier Part Number 4: 771-PSMN017-80BS,118; Mounting Technology: Surface Mount; ComponentLink1Description: Manufacturer URL; ComponentLink1URL: http://www.nxp.com/; ComponentLink2Description: Datasheet; ComponentLink2URL: http://www.nxp.com/documents/data_sheet/PSMN017-80BS.pdf; ComponentLink3Description: Package Specification; ComponentLink3URL: http://www.nxp.com/documents/outline_drawing/sot404_po.pdf
footprint NXP-SOT404_N (DPAK, 3-Leads, Body 10.3x9.8mm, Pitch 2.54mm, IPC Medium Density)
footprint NXP-SOT404_L (DPAK, 3-Leads, Body 10.3x9.8mm, Pitch 2.54mm, IPC High Density)
footprint NXP-SOT404_M (DPAK, 3-Leads, Body 10.3x9.8mm, Pitch 2.54mm, IPC Low Density)
pins: 1 G "gate", 3 S "source", 4 D "mounting base; connected to drain"

## PSMN017-80PS,127
designator Q?
N-Channel Standard Level MOSFET, 80 V, 50 A, 3-Pin SOT78, Tube; Manufacturer: NXP Semiconductors; PartNumber: PSMN017-80PS,127; Channel Type: N; Ciss [typ] (pF): 1573; Coss [typ] (pF): 154; ID [max] (A): 50; Qr [typ] (nC): 55; VDS [max] (V): 80; VGSth [typ] (V): 3; DatasheetVersion: Rev. 3; PackageVersion: 08-06-13, 06/2008; PackageReference: SOT78; PackageDescription: 3-Pin Flange Mount, Vertical Straight Lead, Body 10 x 4.4 mm, Pitch 2.54 mm; Supplier 1: Digi-Key; Supplier Part Number 1: 568-7511-5-ND; Supplier 2: Mouser; Supplier Part Number 2: 771-PSMN01780PS127; Packing: Tube; Mounting Technology: Through Hole; Code_JEITA: SC-46; Code_JEDEC: 3-lead TO-220AB; ComponentLink1Description: Manufacturer URL; ComponentLink1URL: http://www.nxp.com/; ComponentLink2Description: Datasheet; ComponentLink2URL: http://www.nxp.com/documents/data_sheet/PSMN017-80PS.pdf; ComponentLink3Description: Package Specification; ComponentLink3URL: http://www.nxp.com/documents/outline_drawing/sot078_po.pdf
footprint NXP-SOT78 (FM, 3-Leads, Body 10.3x4.7mm, Pitch 2.54mm)
pins: 1 G "gate", 2 D "drain", 3 S "source"

## PSMN018-80YS,115
designator Q?
N-Channel Standard Level MOSFET, 80 V, 45 A, 5-Pin SOT669, Tape and Reel; Manufacturer: NXP Semiconductors; PartNumber: PSMN018-80YS,115; Channel Type: N; Ciss [typ] (pF): 1640; Coss [typ] (pF): 170; ID [max] (A): 45; Packing: Tape & Reel; Qr [typ] (nC): 80; VGSth [typ] (V): 3; DatasheetVersion: Rev. 02; PackageVersion: 13-02-27, 02/2013; PackageReference: SOT669; PackageDescription: 4-Pin Plastic Single-ended Surface Mounted Package, Body 4.9 x 3.95 mm, Pitch 1.27 mm; Supplier 1: Digi-Key; Supplier Part Number 1: 568-5582-2-ND; Supplier 2: Digi-Key; Supplier Part Number 2: 568-5582-1-ND; Supplier 3: Digi-Key; Supplier Part Number 3: 568-5582-6-ND; Supplier 4: Newark; Supplier Part Number 4: 99R2969; Supplier 5: Mouser; Supplier Part Number 5: 771-PSMN01880YS115; VDS [max] (V): 80; Mounting Technology: Surface Mount; Code_JEDEC: MO-235; ComponentLink1Description: Manufacturer URL; ComponentLink1URL: http://www.nxp.com/; ComponentLink2Description: Datasheet; ComponentLink2URL: http://www.nxp.com/documents/data_sheet/PSMN018-80YS.pdf; ComponentLink3Description: Package Specification; ComponentLink3URL: http://www.nxp.com/documents/outline_drawing/sot669_po.pdf
footprint NXP-SOT669_N (DPAK, 4-Leads, Body 5x4.1mm, Pitch 1.27mm, IPC Medium Density)
footprint NXP-SOT669_L (DPAK, 4-Leads, Body 5x4.1mm, Pitch 1.27mm, IPC High Density)
footprint NXP-SOT669_M (DPAK, 4-Leads, Body 5x4.1mm, Pitch 1.27mm, IPC Low Density)
pins: 1 S "source", 2 S "source", 3 S "source", 4 G "gate", 5 D "mounting base; connected to drain"
text: 1, 2, 3

## PSMN020-30MLCX
designator Q?
N-Channel Logic Level MOSFET Using TrenchMOS Technology, 30 V, 31.8 A, 5-Pin SOT1210, Reel; Manufacturer: NXP Semiconductors; PartNumber: PSMN020-30MLCX; Channel Type: N; Ciss [typ] (pF): 430; Coss [typ] (pF): 120; ID [max] (A): 31.8; Qr [typ] (nC): 5.1; VDS [max] (V): 30; VGSth [typ] (V): 1.62; PackageVersion: 14-04-25, 04/2014; PackageReference: SOT1210; PackageDescription: 8-Pin Plastic Single-ended Surface Mounted Package, Body 3.3 x 2.6 mm, Pitch 0.65 mm; Supplier 1: Digi-Key; Supplier Part Number 1: PSMN020-30MLCX-ND; Supplier 2: Farnell; Supplier Part Number 2: 2254225; Supplier 3: Newark; Supplier Part Number 3: 53W9721; Supplier 4: Mouser; Supplier Part Number 4: 771-PSMN020-30MLCX; Packing: Reel; Mounting Technology: Surface Mount; ComponentLink1Description: Manufacturer URL; ComponentLink1URL: http://www.nxp.com/; ComponentLink2Description: Datasheet; ComponentLink2URL: http://www.nxp.com/documents/data_sheet/PSMN020-30MLC.pdf; ComponentLink3Description: Package Specification; ComponentLink3URL: http://www.nxp.com/documents/outline_drawing/sot1210_po.pdf
footprint NXP-SOT1210_N (DPAK, 5-Leads, Body 3.4x2.7mm, Pitch 0.65mm, IPC Medium Density)
footprint NXP-SOT1210_L (DPAK, 5-Leads, Body 3.4x2.7mm, Pitch 0.65mm, IPC High Density)
footprint NXP-SOT1210_M (DPAK, 5-Leads, Body 3.4x2.7mm, Pitch 0.65mm, IPC Low Density)
pins: 1 S "source", 2 S "source", 3 S "source", 4 G "gate", 5 D "mounting base; connected to drain"
text: 1, 2, 3

## PSMN020-100YS,115
designator Q?
N-Channel Standard Level MOSFET, 100 V, 43 A, 5-Pin SOT669, Tape and Reel; Manufacturer: NXP Semiconductors; PartNumber: PSMN020-100YS,115; Channel Type: N; Ciss [typ] (pF): 2210; Coss [typ] (pF): 167; ID [max] (A): 43; Packing: Tape & Reel; Qr [typ] (nC): 112; VDS [max] (V): 100; VGSth [typ] (V): 3; PackageVersion: 13-02-27, 02/2013; PackageReference: SOT669; PackageDescription: 4-Pin Plastic Single-ended Surface Mounted Package, Body 4.9 x 3.95 mm, Pitch 1.27 mm; Supplier 1: Digi-Key; Supplier Part Number 1: 568-4975-2-ND; Supplier 2: Digi-Key; Supplier Part Number 2: 568-4975-1-ND; Supplier 3: Digi-Key; Supplier Part Number 3: 568-4975-6-ND; Supplier 4: Newark; Supplier Part Number 4: 79R2057; Supplier 5: Newark; Supplier Part Number 5: 72R6290; Supplier 6: Mouser; Supplier Part Number 6: 771-PSMN020-100YS115; Mounting Technology: Surface Mount; Code_JEDEC: MO-235; ComponentLink1Description: Manufacturer URL; ComponentLink1URL: http://www.nxp.com/; ComponentLink2Description: Datasheet; ComponentLink2URL: http://www.nxp.com/documents/data_sheet/PSMN020-100YS.pdf; ComponentLink3Description: Package Specification; ComponentLink3URL: http://www.nxp.com/documents/outline_drawing/sot669_po.pdf
footprint NXP-SOT669_N (DPAK, 4-Leads, Body 5x4.1mm, Pitch 1.27mm, IPC Medium Density)
footprint NXP-SOT669_L (DPAK, 4-Leads, Body 5x4.1mm, Pitch 1.27mm, IPC High Density)
footprint NXP-SOT669_M (DPAK, 4-Leads, Body 5x4.1mm, Pitch 1.27mm, IPC Low Density)
pins: 1 S "source", 2 S "source", 3 S "source", 4 G "gate", 5 D "mounting base; connected to drain"
text: 1, 2, 3

## PSMN022-30BL,118
designator Q?
N-Channel Logic Level MOSFET, 30 V, 30 A, 3-Pin SOT404, Tape and Reel; Manufacturer: NXP Semiconductors; PartNumber: PSMN022-30BL,118; Channel Type: N; Ciss [typ] (pF): 447; Coss [typ] (pF): 96; ID [max] (A): 30; Packing: Tape & Reel; Qr [typ] (nC): 10; VGSth [typ] (V): 1.7; DatasheetVersion: Rev. 1; PackageVersion: 13-02-25, 02/2013; PackageReference: SOT404; PackageDescription: 3-Pin Plastic Single-ended Surface Mounted Package, Body 10 x 9.6 mm, Pitch 2.54 mm; Supplier 1: Digi-Key; Supplier Part Number 1: 568-9487-2-ND; Supplier 2: Digi-Key; Supplier Part Number 2: 568-9487-1-ND; Supplier 3: Digi-Key; Supplier Part Number 3: 568-9487-6-ND; Supplier 4: Mouser; Supplier Part Number 4: 771-PSMN022-30BL,18; VDS [max] (V): 30; Mounting Technology: Surface Mount; ComponentLink1Description: Manufacturer URL; ComponentLink1URL: http://www.nxp.com/; ComponentLink2Description: Datasheet; ComponentLink2URL: http://www.nxp.com/documents/data_sheet/PSMN022-30BL.pdf; ComponentLink3Description: Package Specification; ComponentLink3URL: http://www.nxp.com/documents/outline_drawing/sot404_po.pdf
footprint NXP-SOT404_N (DPAK, 3-Leads, Body 10.3x9.8mm, Pitch 2.54mm, IPC Medium Density)
footprint NXP-SOT404_L (DPAK, 3-Leads, Body 10.3x9.8mm, Pitch 2.54mm, IPC High Density)
footprint NXP-SOT404_M (DPAK, 3-Leads, Body 10.3x9.8mm, Pitch 2.54mm, IPC Low Density)
pins: 1 G "gate", 3 S "source", 4 D "mounting base; connected to drain"

## PSMN022-30PL,127
designator Q?
N-Channel Logic Level MOSFET, 30 V, 30 A, 3-Pin SOT78, Tube; Manufacturer: NXP Semiconductors; PartNumber: PSMN022-30PL,127; Channel Type: N; Ciss [typ] (pF): 447; Coss [typ] (pF): 96; ID [max] (A): 30; Qr [typ] (nC): 10; VGSth [typ] (V): 1.7; DatasheetVersion: Rev. 02; PackageVersion: 08-06-13, 06/2008; PackageReference: SOT78; PackageDescription: 3-Pin Flange Mount, Vertical Straight Lead, Body 10 x 4.4 mm, Pitch 2.54 mm; Supplier 1: Digi-Key; Supplier Part Number 1: 568-7512-5-ND; Supplier 2: Newark; Supplier Part Number 2: 99R2970; Supplier 3: Mouser; Supplier Part Number 3: 771-PSMN02230PL127; Packing: Tube; VDS [max] (V): 30; Mounting Technology: Through Hole; Code_JEITA: SC-46; Code_JEDEC: 3-lead TO-220AB; ComponentLink1Description: Manufacturer URL; ComponentLink1URL: http://www.nxp.com/; ComponentLink2Description: Datasheet; ComponentLink2URL: http://www.nxp.com/documents/data_sheet/PSMN022-30PL.pdf; ComponentLink3Description: Package Specification; ComponentLink3URL: http://www.nxp.com/documents/outline_drawing/sot078_po.pdf
footprint NXP-SOT78 (FM, 3-Leads, Body 10.3x4.7mm, Pitch 2.54mm)
pins: 1 G "gate", 2 D "drain", 3 S "source"

## PSMN025-100D,118
designator Q?
N-Channel TrenchMOS SiliconMAX Standard Level FET, 100 V, 47 A, 3-Pin SOT428, Tape and Reel; Manufacturer: NXP Semiconductors; PartNumber: PSMN025-100D,118; Channel Type: N; Ciss [typ] (pF): 2600; Coss [typ] (pF): 340; ID [max] (A): 47; Packing: Tape & Reel; Qr [typ] (nC): 260; VDS [max] (V): 100; VGSth [typ] (V): 3; DatasheetVersion: Rev. 4; PackageVersion: 14-06-10, 06/2014; PackageReference: SOT428; PackageDescription: 3-Pin Plastic Single-ended Surface Mounted Package, Body 6.1 x 6.6 mm, Pitch 2.285 mm; Supplier 1: Digi-Key; Supplier Part Number 1: 568-8113-2-ND; Supplier 2: Digi-Key; Supplier Part Number 2: 568-8113-1-ND; Supplier 3: Digi-Key; Supplier Part Number 3: 568-8113-6-ND; Supplier 4: Farnell; Supplier Part Number 4: 1758132; Supplier 5: Farnell; Supplier Part Number 5: 1758132RL; Supplier 6: Newark; Supplier Part Number 6: 79R2058; Supplier 7: Mouser; Supplier Part Number 7: 771-PSMN025-100D118; Mounting Technology: Surface Mount; Code_JEITA: SC-63; Code_JEDEC: TO-252; ComponentLink1Description: Manufacturer URL; ComponentLink1URL: http://www.nxp.com/; ComponentLink2Description: Datasheet; ComponentLink2URL: http://www.nxp.com/documents/data_sheet/PSMN025-100D.pdf; ComponentLink3Description: Package Specification; ComponentLink3URL: http://www.nxp.com/documents/outline_drawing/sot428_po.pdf
footprint NXP-SOT428_N (DPAK, 3-Leads, Body 6.75x6.22mm, Pitch 2.29mm, IPC Medium Density)
footprint NXP-SOT428_L (DPAK, 3-Leads, Body 6.75x6.22mm, Pitch 2.29mm, IPC High Density)
footprint NXP-SOT428_M (DPAK, 3-Leads, Body 6.75x6.22mm, Pitch 2.29mm, IPC Low Density)
pins: 1 G "gate", 3 S "source", 4 D "mounting base; connected to drain"

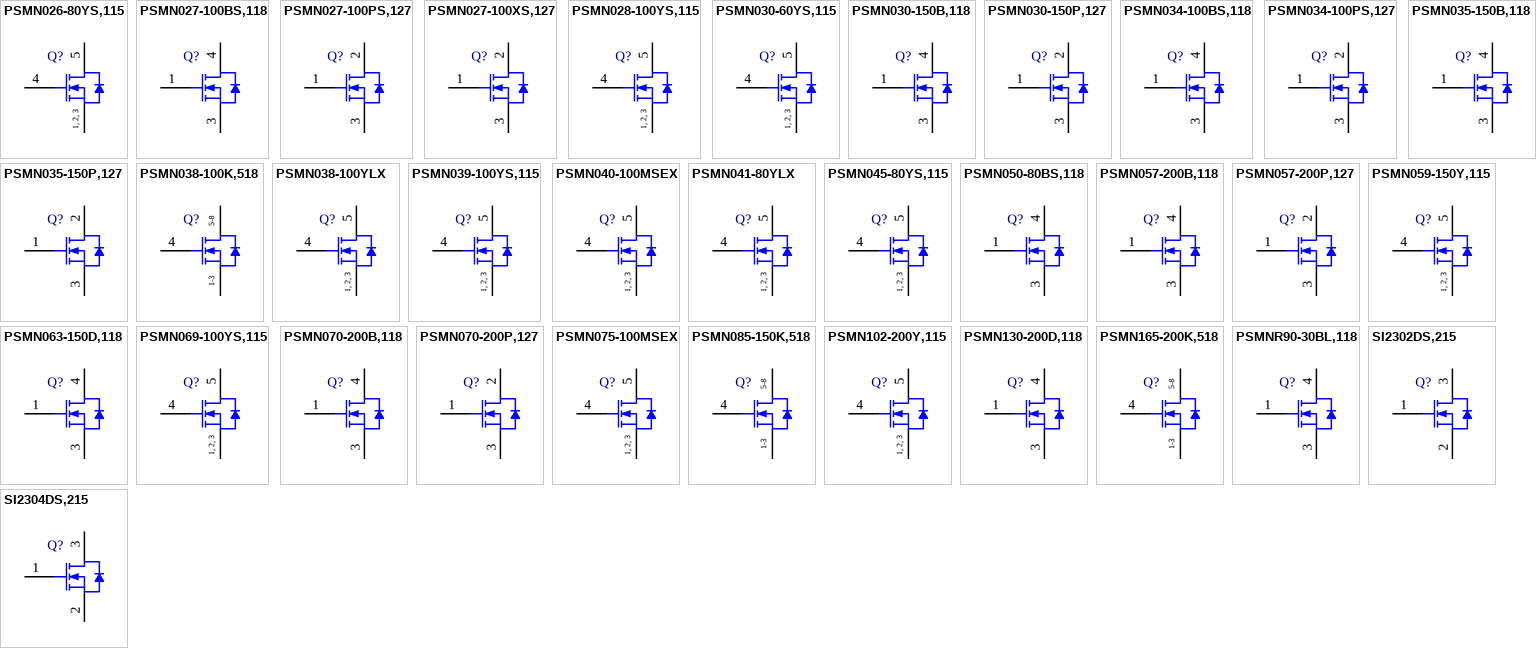
[diagram p12: symbols PSMN026-80YS,115 to SI2304DS,215]

## PSMN026-80YS,115
designator Q?
N-Channel Standard Level MOSFET, 80 V, 34 A, 5-Pin SOT669, Tape and Reel; Manufacturer: NXP Semiconductors; PartNumber: PSMN026-80YS,115; Channel Type: N; Ciss [typ] (pF): 1200; Coss [typ] (pF): 120; ID [max] (A): 34; Packing: Tape & Reel; Qr [typ] (nC): 52; VDS [max] (V): 80; VGSth [typ] (V): 3; DatasheetVersion: Rev. 01; PackageVersion: 13-02-27, 02/2013; PackageReference: SOT669; PackageDescription: 4-Pin Plastic Single-ended Surface Mounted Package, Body 4.9 x 3.95 mm, Pitch 1.27 mm; Supplier 1: Digi-Key; Supplier Part Number 1: 568-4910-2-ND; Supplier 2: Digi-Key; Supplier Part Number 2: 568-4910-1-ND; Supplier 3: Digi-Key; Supplier Part Number 3: 568-4910-6-ND; Supplier 4: Newark; Supplier Part Number 4: 79R2059; Supplier 5: Mouser; Supplier Part Number 5: 771-PSMN026-80YS,115; Mounting Technology: Surface Mount; Code_JEDEC: MO-235; ComponentLink1Description: Manufacturer URL; ComponentLink1URL: http://www.nxp.com/; ComponentLink2Description: Datasheet; ComponentLink2URL: http://www.nxp.com/documents/data_sheet/PSMN026-80YS.pdf; ComponentLink3Description: Package Specification; ComponentLink3URL: http://www.nxp.com/documents/outline_drawing/sot669_po.pdf
footprint NXP-SOT669_N (DPAK, 4-Leads, Body 5x4.1mm, Pitch 1.27mm, IPC Medium Density)
footprint NXP-SOT669_L (DPAK, 4-Leads, Body 5x4.1mm, Pitch 1.27mm, IPC High Density)
footprint NXP-SOT669_M (DPAK, 4-Leads, Body 5x4.1mm, Pitch 1.27mm, IPC Low Density)
pins: 1 S "source", 2 S "source", 3 S "source", 4 G "gate", 5 D "mounting base; connected to drain"
text: 1, 2, 3